# EAGLE library part WE-MLS-3WAY (library Wuerth_Elektronik_eiSos_ v6.0)
Multiline EMI Suppression Ferrite - Filter for common mode or differential mode - High rated current with typ. 4 A - High impedance common mode inductor with 2x2 winding made by PCB line connection - Broardband litering because of the NiZn-ferrite core - RF- common mode inductor for 2,3 or 4 lines in one component -- Perfect suitable for absorption of common or differential mode interferences in the field of EMC -- High current DC output filters of power supplies e.g. battery chargers, industrial power supplies -- With one turn the component performes like a 3 or 4 times common mode chock for the signal
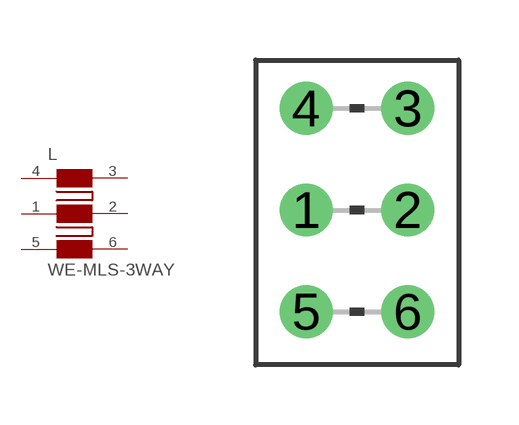
[diagram p1: symbol with the pads of WE-3WAY_74273001; footprint WE-3WAY_74273001]

Designator prefix L

## WE-MLS-3WAY_74273001  [WE-3WAY_74273001]
1  P$1  pas
2  P$2  pas
3  P$3  pas
4  P$4  pas
5  P$5  pas
6  P$6  pas

## Footprint WE-3WAY_74273001 (pad centres in mm)
Multiline EMI Suppression Ferrite WE-MLS
drill 0.813 round: 1 -1.27,0; 2 1.27,0; 3 1.27,2.54; 4 -1.27,2.54; 5 -1.27,-2.54; 6 1.27,-2.54